# EAGLE library part CONNECTOR62 (library conn4)
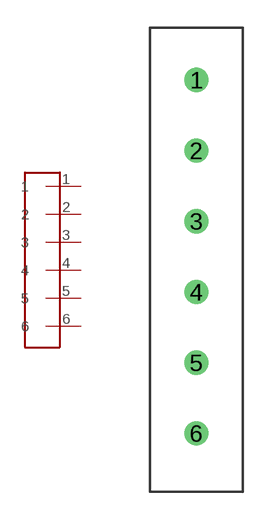
[diagram p0: symbol with the pads of CONNECTOR6; footprint CONNECTOR6]

Designator prefix -

## CONNECTOR62  [CONNECTOR6]
1  1
2  2
3  3
4  4
5  5
6  6

## Footprint CONNECTOR6 (pad centres in mm)
drill 0.8: 1 -0.5,-3.81; 2 -0.5,-7.62; 3 -0.5,-11.43; 4 -0.5,-15.24; 5 -0.5,-19.05; 6 -0.5,-22.86